# Altium footprint library J_Tag.PcbLib: 28 footprints (part 1 of 2)
Each footprint in its own frame and in the unit in brackets; x right, y up, seen from the top. Pads: shape width x height; smd on the part's side, far side on the other; paste and mask are expansions set on the pad; w line width, h text height; cw(c..) or ccw(c..) is an arc to the next point about the centre after c.
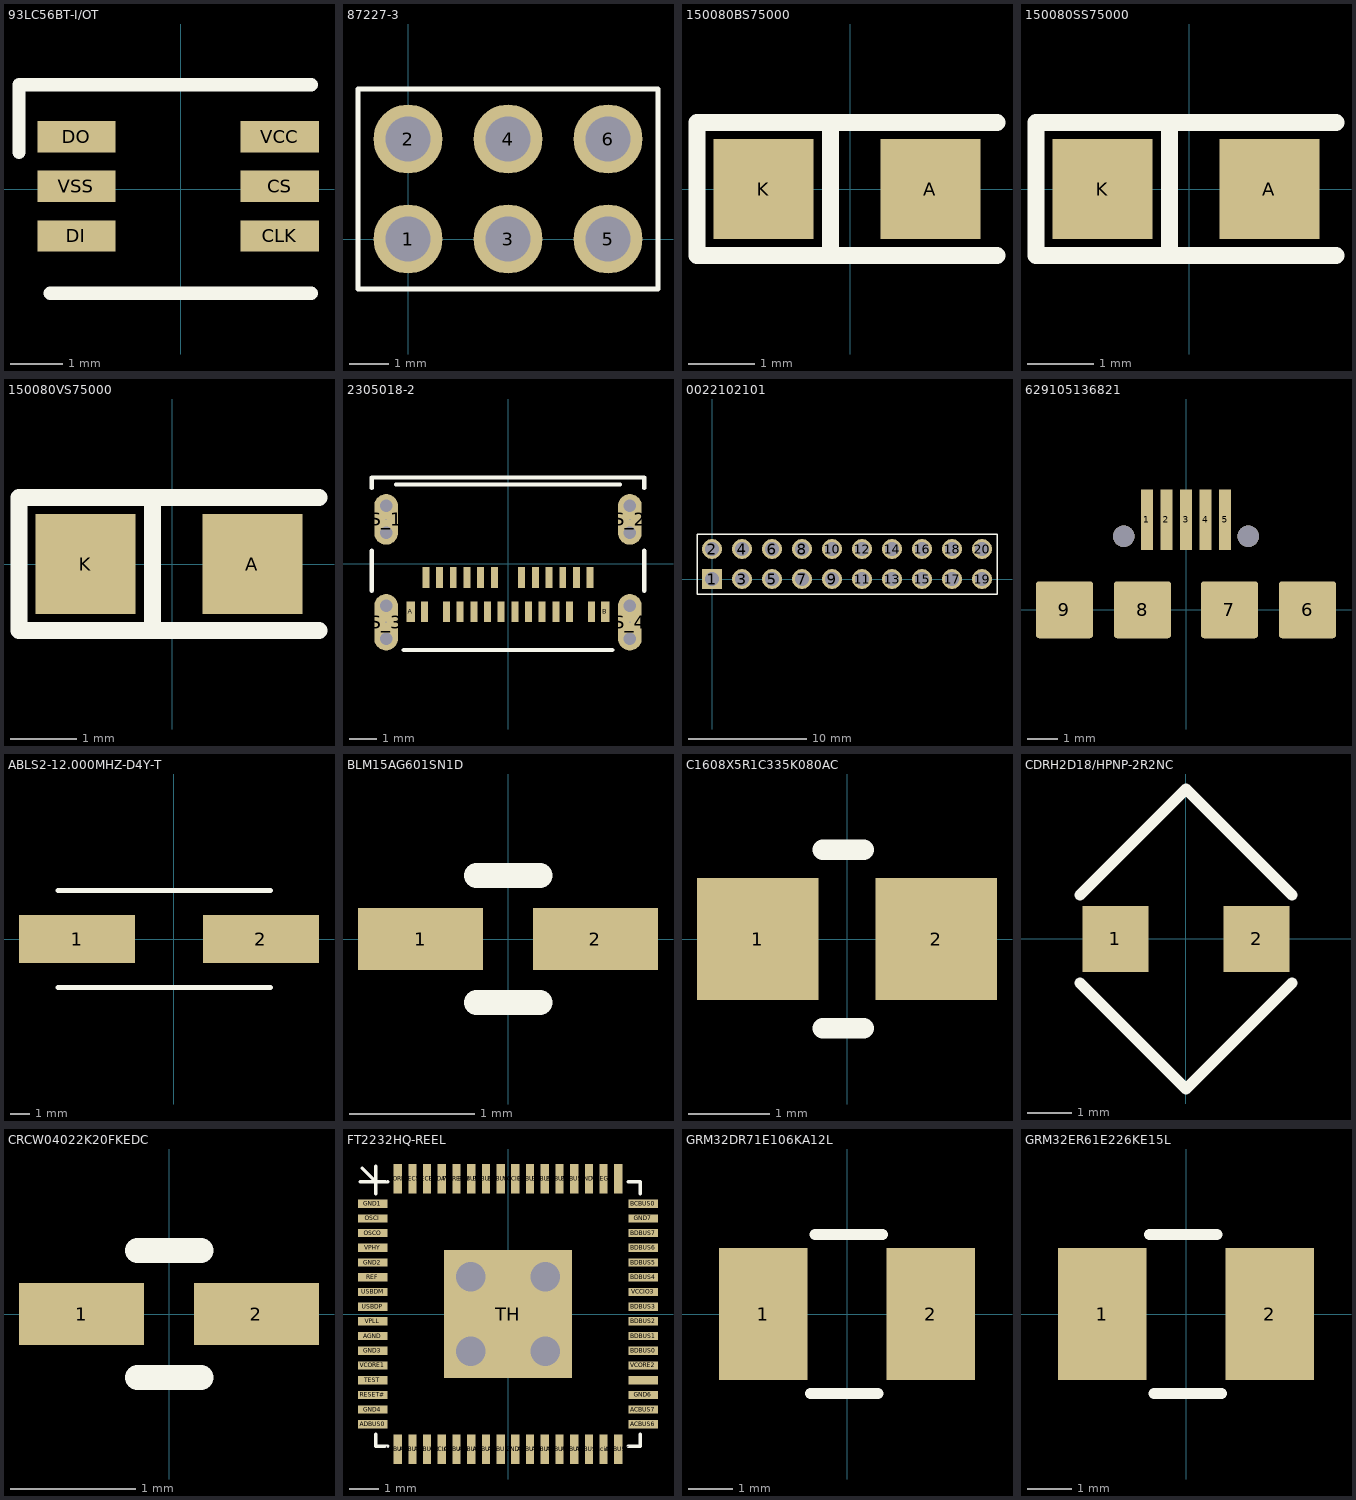
[diagram p0: the footprints below, top view; thin cyan lines are the x and y axes]

## 93LC56BT-I/OT [mm] "IC EEPROM 2K SPI 2MHZ SOT23-6"
pads (6):
  rect 1.5x0.6 smd: CLK(1.9,-0.9) CS(1.9,0.05) DI(-2,-0.9) DO(-2,1) VCC(1.9,1) VSS(-2,0.05)
Top Overlay:
  lines w0.254: -3.1,0.7 -3.1,2 -2.5,2 2.5,2 ; -2.5,-2 2.5,-2
3D body "SOT-23-6_MC_MCH.step": height 1.45, standoff 0, extent -1.6,-1.549 1.6,1.549

## 87227-3 [mm] "CONN HEADER VERT 6POS 2.54MM"
pads (6):
  round 1.75 hole 1.15: 1(0,0) 2(0,2.54) 3(2.54,0) 4(2.54,2.54) 5(5.08,0) 6(5.08,2.54)
Top Overlay:
  lines w0.127: -1.27,-1.27 -1.27,3.81 6.35,3.81 6.35,-1.27 0,-1.27 -1.27,-1.27
3D body "67997-206HLF--3DModel-STEP-56544.STEP": height 8.59, standoff -3.3, extent -1.27,-1.143 6.35,3.683

## 150080BS75000 [mm] "LED BLUE CLEAR 0805 SMD"
pads (2):
  rect 1.5x1.5 smd: A(1.2,0) K(-1.3,0)
Top Overlay:
  lines w0.254: -0.3,-1 -0.3,1 ; 2.2,-1 -2.3,-1 -2.3,1 2.2,1
3D body "150080AS75000_Download_STP_WL-SMCW-0805_rev1.stp": height 0.7, standoff 0, extent -1,-0.625 1,0.625

## 150080SS75000 [mm] "LED RED CLEAR 0805 SMD"
pads (2):
  rect 1.5x1.5 smd: A(1.2,0) K(-1.3,0)
Top Overlay:
  lines w0.254: -0.3,-1 -0.3,1 ; 2.2,-1 -2.3,-1 -2.3,1 2.2,1
3D body "150080AS75000_Download_STP_WL-SMCW-0805_rev1.stp": height 0.7, standoff 0, extent -1,-0.625 1,0.625

## 150080VS75000 [mm] "LED GREEN CLEAR 0805 SMD"
pads (2):
  rect 1.5x1.5 smd: A(1.2,0) K(-1.3,0)
Top Overlay:
  lines w0.254: -0.3,-1 -0.3,1 ; 2.2,-1 -2.3,-1 -2.3,1 2.2,1
3D body "150080AS75000_Download_STP_WL-SMCW-0805_rev1.stp": height 0.7, standoff 0, extent -1,-0.625 1,0.625

## 2305018-2 [mil] "CONN RCP USB3.1 TYPEC 24P SMD RA"
pads (38):
  rect 12x30 smd: A(-139.76,-68.99)
  rect 10x30 smd paste+0: A1(-120.08,-68.99) A2(-88.58,-68.99) A3(-68.9,-68.99) A4(-49.21,-68.99) A5(-29.53,-68.99) A6(-9.84,-68.99) A7(9.84,-68.99) A8(29.53,-68.99) A9(49.21,-68.99) A10(68.9,-68.99) A11(88.58,-68.99) A12(120.08,-68.99) B1(118.11,-19.78) B2(98.42,-19.78) B3(78.74,-19.78) B4(59.05,-19.78) B5(39.37,-19.78) B6(19.68,-19.78) B7(-19.68,-19.78) B8(-39.37,-19.78) B9(-59.06,-19.78) B10(-78.74,-19.78) B11(-98.43,-19.78) B12(-118.11,-19.78)
  rect 12.01x30 smd paste+0: B(139.76,-68.99)
  oval 34x73 hole 1 mask+0: S_1(-175.2,63.88) S_2(175.2,63.88)
  round 18 hole 18: S_1_H1(-175.2,83.38) S_1_H2(-175.2,44.38) S_2_H1(175.2,83.38) S_2_H2(175.2,44.38) S_3_H1(-175.2,-60.65) S_3_H2(-175.2,-107.65) S_4_H1(175.2,-60.65) S_4_H2(175.2,-107.65)
  oval 34x81 hole 1 mask+0: S_3(-175.2,-84.15) S_4(175.2,-84.15)
Top Overlay:
  lines w6: -196,-38.9 -196,18.82 ; -196,108.94 -196,124 196,124 196,108.94 ; -161.27,114 161.27,114 ; -149.92,-124 149.92,-124 ; 196,-38.9 196,18.82
Multi-Layer:
  lines w18: -175.2,-107.65 -175.2,-60.65 ; -175.2,44.38 -175.2,83.38 ; 175.2,-107.65 175.2,-60.65 ; 175.2,44.38 175.2,83.38

## 0022102101 [mm] "Heder 10 pozicija"
pads (20):
  rect 1.7x1.7 hole 1.15 square: 1(0,0)
  round 1.7 hole 1.15: 2(0,2.54) 3(2.54,0) 4(2.54,2.54) 5(5.08,0) 6(5.08,2.54) 7(7.62,0) 8(7.62,2.54) 9(10.16,0) 10(10.16,2.54) 11(12.7,0) 12(12.7,2.54) 13(15.24,0) 14(15.24,2.54) 15(17.78,0) 16(17.78,2.54) 17(20.32,0) 18(20.32,2.54) 19(22.86,0) 20(22.86,2.54)
Top Overlay:
  lines w0.127: -1.27,-1.27 -1.27,3.81 24.13,3.81 24.13,-1.27 -1.27,-1.27
3D body "0022102101.STEP": height 10.79, standoff -3.43, extent -1.145,1.27 24.005,3.61
3D body "0022102101.STEP": height 10.79, standoff -3.43, extent -1.145,-1.27 24.005,1.07

## 629105136821 [mm] "CONN RCPT USB2.0 MICRO B SMD R/A"
pads (9):
  rect 0.4x2 smd: 1(-1.3,3) 2(-0.65,3) 3(0,3) 4(0.65,3) 5(1.3,3)
  rrect10% 1.9x1.9 smd: 6(4.05,0) 7(1.45,0) 8(-1.45,0) 9(-4.05,0)
via 2.075,2.45 diameter 0.7 hole 0.7
via -2.075,2.45 diameter 0.7 hole 0.7
3D body "629105136821_Download_STP_629105136821_rev1.stp": height 2.7, standoff -0.6, extent -4,-2.753 4,3.15

## ABLS2-12.000MHZ-D4Y-T [mm] "CRYSTAL 12.0000MHZ 18PF SMD"
pads (2):
  rect 6x2.5 smd: 1(-5,0) 2(4.5,0)
Top Overlay:
  lines w0.254: -6,-2.5 5,-2.5 ; -6,2.5 5,2.5
3D body "ABLS2.STEP": height 3.16, standoff -0.1, extent -6.35,-2.349 6.35,2.35

## BLM15AG601SN1D [mm] "FERRITE BEAD 600 OHM 0402 1LN"
pads (2):
  rect 1x0.5 smd: 1(-0.7,0) 2(0.7,0)
Top Overlay:
  lines w0.2: -0.254,-0.508 0.254,-0.508 ; -0.254,0.508 0.254,0.508
3D body "BK1005LL050-T--3DModel-STEP-46669.STEP": height 0.55, standoff 0, extent -0.5,-0.25 0.5,0.25

## C1608X5R1C335K080AC [mm] "CAP CER 3.3UF 16V X5R 0603"
pads (2):
  rect 1.5x1.5 smd: 1(-1.1,0) 2(1.1,0)
Top Overlay:
  lines w0.254: -0.3,-1.1 0.208,-1.1 ; -0.3,1.1 0.208,1.1
3D body "CGA3E2C0G2A180J080AA--3DModel-STEP-46669.STEP": height 0.9, standoff 0, extent -0.8,-0.4 0.8,0.4

## CDRH2D18/HPNP-2R2NC [mm] "FIXED IND 2.2UH 1.9A 60 MOHM SMD"
pads (2):
  rect 1.5x1.5 smd: 1(-1.6,0) 2(1.6,0)
Top Overlay:
  lines w0.254: -2.4,-1 0,-3.4 2.4,-1 ; -2.4,1 0,3.4 2.4,1
3D body "IND_CDRH2D18HP_SUM.step": height 1.51, standoff 0, extent -2.553,-0.648 2.553,0.648

## CRCW04022K20FKEDC [mm] "RES SMD 2.2K OHM 1% 1/16W 0402"
pads (2):
  rect 1x0.5 smd: 1(-0.7,0) 2(0.7,0)
Top Overlay:
  lines w0.2: -0.254,-0.508 0.254,-0.508 ; -0.254,0.508 0.254,0.508
3D body "CRCW04021R21FKEDC--3DModel-STEP-46669.STEP": height 0.35, standoff 0, extent -0.5,-0.25 0.5,0.25

## FT2232HQ-REEL [mm] "IC USB HS DUAL UART/FIFO 64-QFN"
pads (65):
  rect 0.28x1 smd mask+0.06: ACBUS0(0.75,-4.6) ACBUS1(1.25,-4.6) ACBUS2(1.75,-4.6) ACBUS3(2.25,-4.6) ACBUS4(2.75,-4.6) ACBUS5(3.75,-4.6) ADBUS1(-3.75,-4.6) ADBUS2(-3.25,-4.6) ADBUS3(-2.75,-4.6) ADBUS4(-1.75,-4.6) ADBUS5(-1.25,-4.6) ADBUS6(-0.75,-4.6) ADBUS7(-0.25,-4.6) BCBUS1(2.25,4.6) BCBUS2(1.75,4.6) BCBUS3(1.25,4.6) BCBUS4(0.75,4.6) BCBUS5(-0.25,4.6) BCBUS6(-0.75,4.6) BCBUS7(-1.25,4.6) EECLK(-2.75,4.6) EECS(-3.25,4.6) EEDATA(-2.25,4.6) GND5(0.25,-4.6) GND8(2.75,4.6) PWREN#(-1.75,4.6) VCCIO1(-2.25,-4.6) vccio2(3.25,-4.6) VCCIO4(0.25,4.6) VCORE3(-3.75,4.6) VREGIN(3.25,4.6) VREGOUT(3.75,4.6)
  rect 1x0.28 smd mask+0.06: ACBUS6(4.6,-3.75) ACBUS7(4.6,-3.25) ADBUS0(-4.6,-3.75) AGND(-4.6,-0.75) BCBUS0(4.6,3.75) BDBUS0(4.6,-1.25) BDBUS1(4.6,-0.75) BDBUS2(4.6,-0.25) BDBUS3(4.6,0.25) BDBUS4(4.6,1.25) BDBUS5(4.6,1.75) BDBUS6(4.6,2.25) BDBUS7(4.6,2.75) GND1(-4.6,3.75) GND2(-4.6,1.75) GND3(-4.6,-1.25) GND4(-4.6,-3.25) GND6(4.6,-2.75) GND7(4.6,3.25) OSCI(-4.6,3.25) OSCO(-4.6,2.75) REF(-4.6,1.25) RESET#(-4.6,-2.75) SUSPEND#(4.6,-2.25) TEST(-4.6,-2.25) USBDM(-4.6,0.75) USBDP(-4.6,0.25) VCCIO3(4.6,0.75) VCORE1(-4.6,-1.75) VCORE2(4.6,-1.75) VPHY(-4.6,2.25) VPLL(-4.6,-0.25)
  rect 4.35x4.35 smd paste-3 mask+0.06: TH(0,0)
via -1.27,-1.27 diameter 1.27 hole 1
via 1.27,-1.27 diameter 1.27 hole 1
via 1.27,1.27 diameter 1.27 hole 1
via -1.27,1.27 diameter 1.27 hole 1
Top Overlay:
  lines w0.127: -5.025,4.5 -4.5,4.5 ; -4.953,4.953 -4.5,4.5 ; -4.5,-4.1 -4.5,-4.5 -4.1,-4.5 ; -4.5,4.1 -4.5,4.5 ; -4.5,5.025 -4.5,4.5 ; -4.1,4.5 -4.5,4.5 ; 4.1,-4.5 4.5,-4.5 4.5,-4.1 ; 4.1,4.5 4.5,4.5 4.5,4.1
Top Paste:
  region: 1.375,-1.375 -1.375,-1.375 -1.375,1.375 1.375,1.375
3D body "QFN_32HQ-REEL_FTD.step": height 0.89, standoff 0, extent -4.496,-4.496 4.496,4.496

## GRM32DR71E106KA12L [mm] "CAP CER 10UF 25V X7R 1210"
pads (2):
  rect 2x3 smd: 1(-1.9,0) 2(1.9,0)
Top Overlay:
  lines w0.254: -0.824,-1.8 0.7,-1.8 ; -0.724,1.8 0.8,1.8
3D body "CAP_GRM_32D_MUR.step": height 2.21, standoff 0, extent -1.753,-1.346 1.753,1.346

## GRM32ER61E226KE15L [mm] "CAP CER 22UF 25V X5R 1210"
pads (2):
  rect 2x3 smd: 1(-1.9,0) 2(1.9,0)
Top Overlay:
  lines w0.254: -0.824,1.8 0.7,1.8 ; -0.724,-1.8 0.8,-1.8
3D body "G-32_MUR.step": height 2.79, standoff 0, extent -1.6,-1.245 1.6,1.245